# Altium footprint library TO-220_Bended_Radiator.PcbLib: 1 footprints
Each footprint in its own frame and in the unit in brackets; x right, y up, seen from the top. Pads: shape width x height; smd on the part's side, far side on the other; paste and mask are expansions set on the pad; w line width, h text height; cw(c..) or ccw(c..) is an arc to the next point about the centre after c.
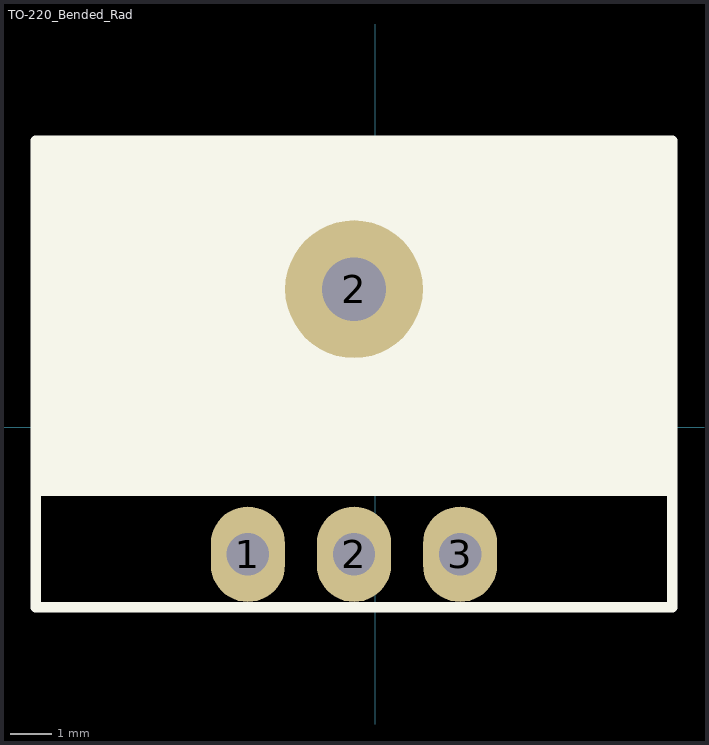
[diagram p0: the footprint, top view; thin cyan lines are the x and y axes]

## TO-220_Bended_Rad [mil]
pads (4):
  oval 70x90 hole 40: 1(-120,-120) 2(-20,-120) 3(80,-120)
  round 130 hole 60: 2(-20,130)
Top Overlay:
  rectangle: -320,-60 280,270
  lines w10: -320,270 280,270 ; -320,270 -320,-170 280,-170 280,270 ; -320,270 280,270 ; -320,270 -320,-60 280,-60 280,270
3D body "TO220 (bend) + radiator.STEP": height 997.07, standoff -144.67, extent -315.28,-165 275.28,264.53